# Altium footprint library flatsat_platform.PcbLib: 26 footprints (part 2 of 2)
Each footprint in its own frame and in the unit in brackets; x right, y up, seen from the top. Pads: shape width x height; smd on the part's side, far side on the other; paste and mask are expansions set on the pad; w line width, h text height; cw(c..) or ccw(c..) is an arc to the next point about the centre after c.
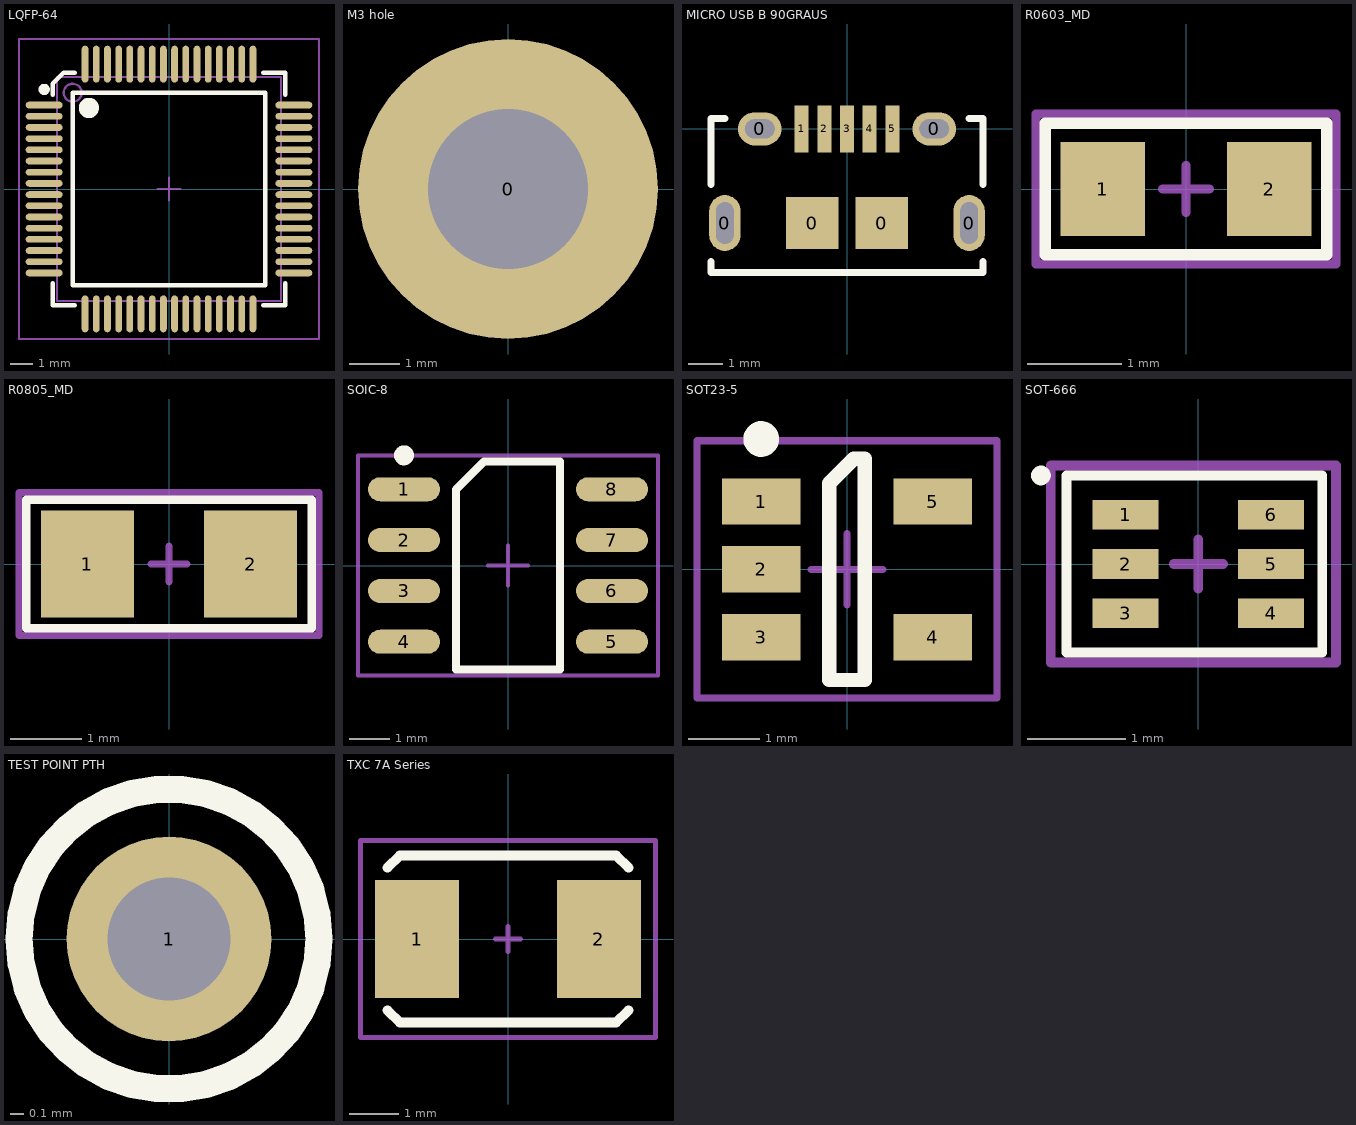
[diagram p1: the footprints below, top view; thin cyan lines are the x and y axes]

## LQFP-64 [mm] "64-Pin LQFP 0.5 mm Pitch"
height 1.6
pads (64):
  oval 1.65x0.3 smd: 1(-5.575,3.75) 2(-5.575,3.25) 3(-5.575,2.75) 4(-5.575,2.25) 5(-5.575,1.75) 6(-5.575,1.25) 7(-5.575,0.75) 8(-5.575,0.25) 9(-5.575,-0.25) 10(-5.575,-0.75) 11(-5.575,-1.25) 12(-5.575,-1.75) 13(-5.575,-2.25) 14(-5.575,-2.75) 15(-5.575,-3.25) 16(-5.575,-3.75) 33(5.575,-3.75) 34(5.575,-3.25) 35(5.575,-2.75) 36(5.575,-2.25) 37(5.575,-1.75) 38(5.575,-1.25) 39(5.575,-0.75) 40(5.575,-0.25) 41(5.575,0.25) 42(5.575,0.75) 43(5.575,1.25) 44(5.575,1.75) 45(5.575,2.25) 46(5.575,2.75) 47(5.575,3.25) 48(5.575,3.75)
  oval 0.3x1.65 smd: 17(-3.75,-5.575) 18(-3.25,-5.575) 19(-2.75,-5.575) 20(-2.25,-5.575) 21(-1.75,-5.575) 22(-1.25,-5.575) 23(-0.75,-5.575) 24(-0.25,-5.575) 25(0.25,-5.575) 26(0.75,-5.575) 27(1.25,-5.575) 28(1.75,-5.575) 29(2.25,-5.575) 30(2.75,-5.575) 31(3.25,-5.575) 32(3.75,-5.575) 49(3.75,5.575) 50(3.25,5.575) 51(2.75,5.575) 52(2.25,5.575) 53(1.75,5.575) 54(1.25,5.575) 55(0.75,5.575) 56(0.25,5.575) 57(-0.25,5.575) 58(-0.75,5.575) 59(-1.25,5.575) 60(-1.75,5.575) 61(-2.25,5.575) 62(-2.75,5.575) 63(-3.25,5.575) 64(-3.75,5.575)
Top Overlay:
  circle w0.25: c-5.575,4.45 r0.125
  circle w0.6: c-3.58,3.62 r0.15
  lines w0.2: -5.2,-4.2 -5.2,-5.2 ; -5.2,4.2 -5.2,4.7 -4.7,5.2 -4.2,5.2 ; -4.2,-5.2 -5.2,-5.2 ; 4.2,-5.2 5.201,-5.2 5.2,-5.201 5.2,-4.2 ; 4.2,5.2 5.2,5.2 5.2,5.2 5.2,4.2 ; -5.2,-5.2 -5.2,-5.2 ; -4.3,-4.3 -4.3,4.3 4.3,4.3 4.3,-4.3 -4.3,-4.3
Mechanical 13:
  circle w0.1: c-4.3,4.3 r0.4
  lines w0.1: -5,-5 -5,5 5,5 5,-5 -5,-5
Mechanical 15:
  lines w0.1: -0.5,0 0.5,0 ; 0,-0.5 0,0.5 ; -6.7,-6.7 -6.7,6.7 6.7,6.7 6.7,-6.7 -6.7,-6.7
  text "'.Designator'" at -4,3 h1.2
3D body "User Library-LQFP64_Grid_0_5.STEP": height 1.6, standoff 0, extent -6,-6 6,6

## M3 hole [mm]
pads (1):
  round 6 hole 3.2: 0(0,0)

## MICRO USB B 90GRAUS [mm]
pads (11):
  oval 0.9x1.6 hole 0.5 slot 1.2 at 90 deg: 0(-3.5,-2.7) 0(3.5,-2.7)
  oval 1.25x0.95 hole 0.55 slot 0.85 at 0 deg: 0(-2.5,0) 0(2.5,0)
  rect 1.5x1.5 smd: 0(-1,-2.7) 0(1,-2.7)
  rect 0.4x1.35 smd: 1(-1.3,0) 2(-0.65,0) 3(0,0) 4(0.65,0) 5(1.3,0)
Top Overlay:
  lines w0.2: -3.9,-3.8 -3.9,-4.125 3.9,-4.125 3.9,-3.8 ; -3.9,-1.6 -3.9,0.3 -3.5,0.3 ; 3.5,0.3 3.9,0.3 3.9,-1.6
3D body "User Library-10118194.STEP": height 2.73, standoff -0.55, extent -4.025,-5.38 4.025,0.2

## R0603_MD [mm] "Chip Resistor, Body 1.6x0.8mm, IPC Medium Density"
height 0.85
pads (2):
  rect 0.9x1 smd: 1(-0.889,0) 2(0.889,0)
Top Overlay:
  lines w0.12: -1.5,-0.7 1.5,-0.7 1.5,0.7 -1.5,0.7 -1.5,-0.7
Mechanical 15:
  lines w0.1: -0.25,0 0.25,0 ; 0,-0.25 0,0.25 ; -1.6,-0.8 1.6,-0.8 1.6,0.8 -1.6,0.8 -1.6,-0.8
3D body "Flat Chip Resistor 0603(1608M).step": height 0.37, standoff 0, extent -0.8,-0.4 0.8,0.402

## R0805_MD [mm] "Chip Resistor, Body 2.0x1.3mm, IPC Medium Density"
height 1.1
pads (2):
  rect 1.3x1.5 smd: 1(-1.143,0) 2(1.143,0)
Top Overlay:
  lines w0.12: -2,-0.9 -2,0.9 2,0.9 2,-0.9 -2,-0.9
Mechanical 15:
  lines w0.1: -0.25,0 0.25,0 ; 0,-0.25 0,0.25 ; -2.1,-1 2.1,-1 2.1,1 -2.1,1 -2.1,-1
  text "'.Designator'" at -1.75,-0.75 h0.8
3D body "Flat Chip Resistor 0805(2012M).step": height 0.47, standoff 0, extent -1,-0.625 1,0.627

## SOIC-8 [mm] "SOIC, 8 Pin, Pitch 1,27mm"
height 2.59
pads (8):
  oval 1.8x0.6 smd: 1(-2.6,1.905) 2(-2.6,0.635) 3(-2.6,-0.635) 4(-2.6,-1.905) 5(2.6,-1.905) 6(2.6,-0.635) 7(2.6,0.635) 8(2.6,1.905)
Top Overlay:
  circle w0.25: c-2.6,2.755 r0.125
  lines w0.2: -1.3,-2.6 -1.3,1.9 -0.6,2.6 1.3,2.6 1.3,-2.6 -1.3,-2.6
Mechanical 15:
  lines w0.1: -0.5,0 0.5,0 ; 0,-0.5 0,0.5 ; -3.75,-2.75 3.75,-2.75 3.75,2.75 -3.75,2.75 -3.75,-2.75
  text "'.Designator'" at -3,1.25 h0.8
3D body "MIC2026-1BM - SOIC-8.stp": height 1.7, standoff 0, extent -3,-2.45 3,2.45

## SOT23-5 [mm]
height 1.45
pads (5):
  rect 1.1x0.65 smd: 1(-1.2,0.95) 2(-1.2,0) 3(-1.2,-0.95) 4(1.2,-0.95) 5(1.2,0.95)
Top Overlay:
  circle w0.25: c-1.2,1.825 r0.125
  lines w0.2: -0.25,-1.55 -0.25,1.206 0.094,1.55 0.25,1.55 0.25,-1.55 -0.25,-1.55
Mechanical 15:
  lines w0.1: -0.5,0 0.5,0 ; 0,-0.5 0,0.5 ; -2.1,-1.8 2.1,-1.8 2.1,1.8 -2.1,1.8 -2.1,-1.8
  text "'.Designator'" at -1.75,0.75 h0.8
3D body "SOT23-5.STEP": height 1.3, standoff 0, extent -1.5,-1.5 1.5,1.5

## SOT-666 [mm]
pads (6):
  rect 0.67x0.3 smd: 1(-0.74,0.5) 2(-0.74,0) 3(-0.74,-0.5) 4(0.74,-0.5) 5(0.74,0) 6(0.74,0.5)
Top Overlay:
  circle w0.1: c-1.6,0.9 r0.05
  lines w0.1: -0.125,0.9 1.26,0.9 1.26,-0.9 -1.34,-0.9 -1.34,0.9 0.125,0.9
Mechanical 15:
  lines w0.1: -0.25,0 0.25,0 ; 0,-0.25 0,0.25 ; -1.5,-1 1.4,-1 1.4,1 -1.5,1 -1.5,-1
  text "'.Designator'" at -0.6,0.4 h0.2
3D body "User Library-SOT50P160X60-6.step": height 0.6, standoff 0, extent -0.8,-0.795 0.8,0.795

## TEST POINT PTH [mm]
pads (1):
  round 1.5 hole 0.9: 1(0,0)
Top Overlay:
  circle w0.2: c0,0 r1.1

## TXC 7A Series [mm]
height 0.9
pads (2):
  rect 1.7x2.4 smd: 1(-1.85,0) 2(1.85,0)
Top Overlay:
  lines w0.2: -2.45,-1.45 -2.2,-1.7 2.2,-1.7 2.45,-1.45 ; -2.45,1.45 -2.2,1.7 2.2,1.7 2.45,1.45
Mechanical 15:
  lines w0.1: -0.25,0 0.25,0 ; 0,-0.25 0,0.25 ; -3,-2 3,-2 3,2 -3,2 -3,-2
  text "'.Designator'" at -2.5,0.75 h0.8
3D body "User Library-445-CRYTAL-SMD.STEP": height 1.35, standoff 0, extent -2.5,-1.6 2.5,1.6